# EAGLE library part NINA-W102 (library all-chips)
NINA-W102 U-Blox Stand-alone multiradio MCU modules. Suppors Wi-Fi 802.11b/g/n in the 2.4 GHz ISM band and Bluetooth v4.2 (Bluetooth BR/EDR and Bluetooth Low Energy (LE).
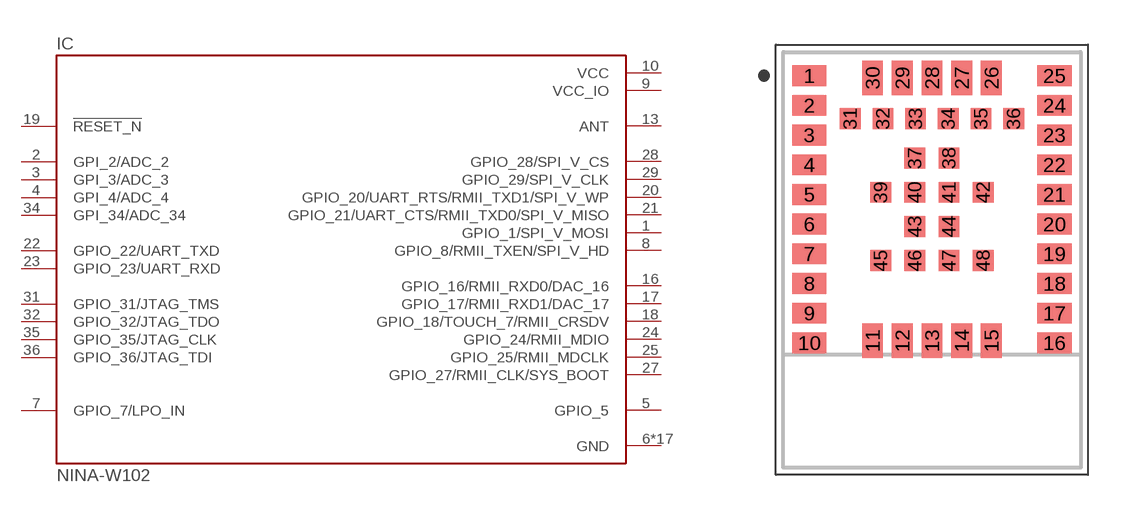
[diagram p29: symbol with the pads of NINA-W102; footprint NINA-W102]

Designator prefix IC

## NINA-W102  [NINA-W102]
1  GPIO_1/SPI_V_MOSI
2  GPI_2/ADC_2  in
3  GPI_3/ADC_3  in
4  GPI_4/ADC_4  in
5  GPIO_5
6  GND  pwr
7  GPIO_7/LPO_IN
8  GPIO_8/RMII_TXEN/SPI_V_HD
9  VCC_IO  pwr
10  VCC  pwr
12  GND  pwr
13  ANT
14  GND  pwr
16  GPIO_16/RMII_RXD0/DAC_16
17  GPIO_17/RMII_RXD1/DAC_17
18  GPIO_18/TOUCH_7/RMII_CRSDV
19  !RESET_N  in
20  GPIO_20/UART_RTS/RMII_TXD1/SPI_V_WP
21  GPIO_21/UART_CTS/RMII_TXD0/SPI_V_MISO
22  GPIO_22/UART_TXD
23  GPIO_23/UART_RXD
24  GPIO_24/RMII_MDIO
25  GPIO_25/RMII_MDCLK
26  GND  pwr
27  GPIO_27/RMII_CLK/SYS_BOOT
28  GPIO_28/SPI_V_CS
29  GPIO_29/SPI_V_CLK
30  GND  pwr
31  GPIO_31/JTAG_TMS
32  GPIO_32/JTAG_TDO
34  GPI_34/ADC_34  in
35  GPIO_35/JTAG_CLK
36  GPIO_36/JTAG_TDI
37  GND  pwr
38  GND  pwr
39  GND  pwr
40  GND  pwr
41  GND  pwr
42  GND  pwr
43  GND  pwr
44  GND  pwr
45  GND  pwr
46  GND  pwr
47  GND  pwr
48  GND  pwr

## Footprint NINA-W102 (pad centres in mm)
https://content.u-blox.com/sites/default/files/NINA-W10_DataSheet_UBX-17065507.pdf
smd 1.15 x 0.7: 1 -4.125,6.2; 2 -4.125,5.2; 3 -4.125,4.2; 4 -4.125,3.2; 5 -4.125,2.2; 6 -4.125,1.2; 7 -4.125,0.2; 8 -4.125,-0.8; 9 -4.125,-1.8; 10 -4.125,-2.8; 16 4.125,-2.8; 17 4.125,-1.8; 18 4.125,-0.8; 19 4.125,0.2; 20 4.125,1.2; 21 4.125,2.2; 22 4.125,3.2; 23 4.125,4.2; 24 4.125,5.2; 25 4.125,6.2
smd 0.7 x 1.15: 11 -2,-2.725; 12 -1,-2.725; 13 0,-2.725; 14 1,-2.725; 15 2,-2.725; 26 2,6.125; 27 1,6.125; 28 0,6.125; 29 -1,6.125; 30 -2,6.125
smd 0.7 x 0.7: 31 -2.75,4.75; 32 -1.65,4.75; 33 -0.55,4.75; 34 0.55,4.75; 35 1.65,4.75; 36 2.75,4.75; 37 -0.575,3.42; 38 0.575,3.42; 39 -1.725,2.27; 40 -0.575,2.27; 41 0.575,2.27; 42 1.725,2.27; 43 -0.575,1.12; 44 0.575,1.12; 45 -1.725,-0.03; 46 -0.575,-0.03; 47 0.575,-0.03; 48 1.725,-0.03